# Altium schematic symbol library FT230XS-R.SchLib: 1 symbol
Pins are listed as number, name and electrical type; pins without a type are passive.

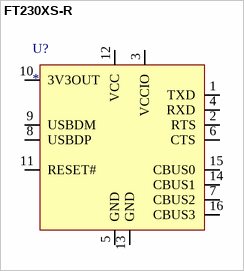
[diagram p0: symbol FT230XS-R]

## FT230XS-R
designator U?
ID: FT230XS-R; PDF: http://www.tme.eu/pl/Document/93b0911297f91fbab90e758d2cc33bdf/DS_FT230X.pdf; PRICE: 6,74 z³; BUY_LINK: http://www.tme.eu/pl/details/ft230xs-r/uklady-scalone-interfejs-usb/ftdi/#t394e4afd2db311e61874c92258f9d9ae
footprint TSSOP16
pins: 1 TXD, 2 RTS, 3 VCCIO, 4 RXD, 5 GND, 6 CTS, 7 CBUS2, 8 USBDP, 9 USBDM, 10 3V3OUT, 11 RESET#, 12 VCC, 13 GND, 14 CBUS1, 15 CBUS0, 16 CBUS3